# EAGLE library part L01-15VA (library trafo-alfamag)
TOROID TRANSFORMER
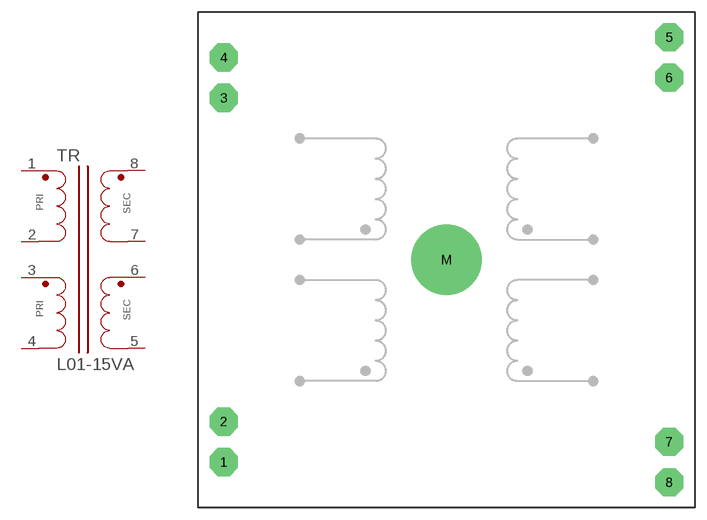
[diagram p3: symbol with the pads of L01-15VA; footprint L01-15VA]

Designator prefix TR

## L01-15VA  [L01-15VA]
1  1  pas
2  2  pas
3  3  pas
4  4  pas
5  5  pas
6  6  pas
7  7  pas
8  8  pas

## Footprint L01-15VA (pad centres in mm)
TOROID TRANSFORMER L x W x H = 60.0 x 60.0 x 26.3 mm X x Y = 55.88 x 55.88 mm
drill 1.422 pad 3.556 octagon: 1 -27.94,-25.4; 2 -27.94,-20.32; 3 -27.94,20.32; 4 -27.94,25.4; 5 27.94,27.94; 6 27.94,22.86; 7 27.94,-22.86; 8 27.94,-27.94
drill 4.699 pad 8.89: M 0,0